# Altium footprint library LIANGJICHAO_LIBRARY.PCBLIB: 178 footprints (part 6 of 12)
Each footprint in its own frame and in the unit in brackets; x right, y up, seen from the top. Pads: shape width x height; smd on the part's side, far side on the other; paste and mask are expansions set on the pad; w line width, h text height; cw(c..) or ccw(c..) is an arc to the next point about the centre after c.
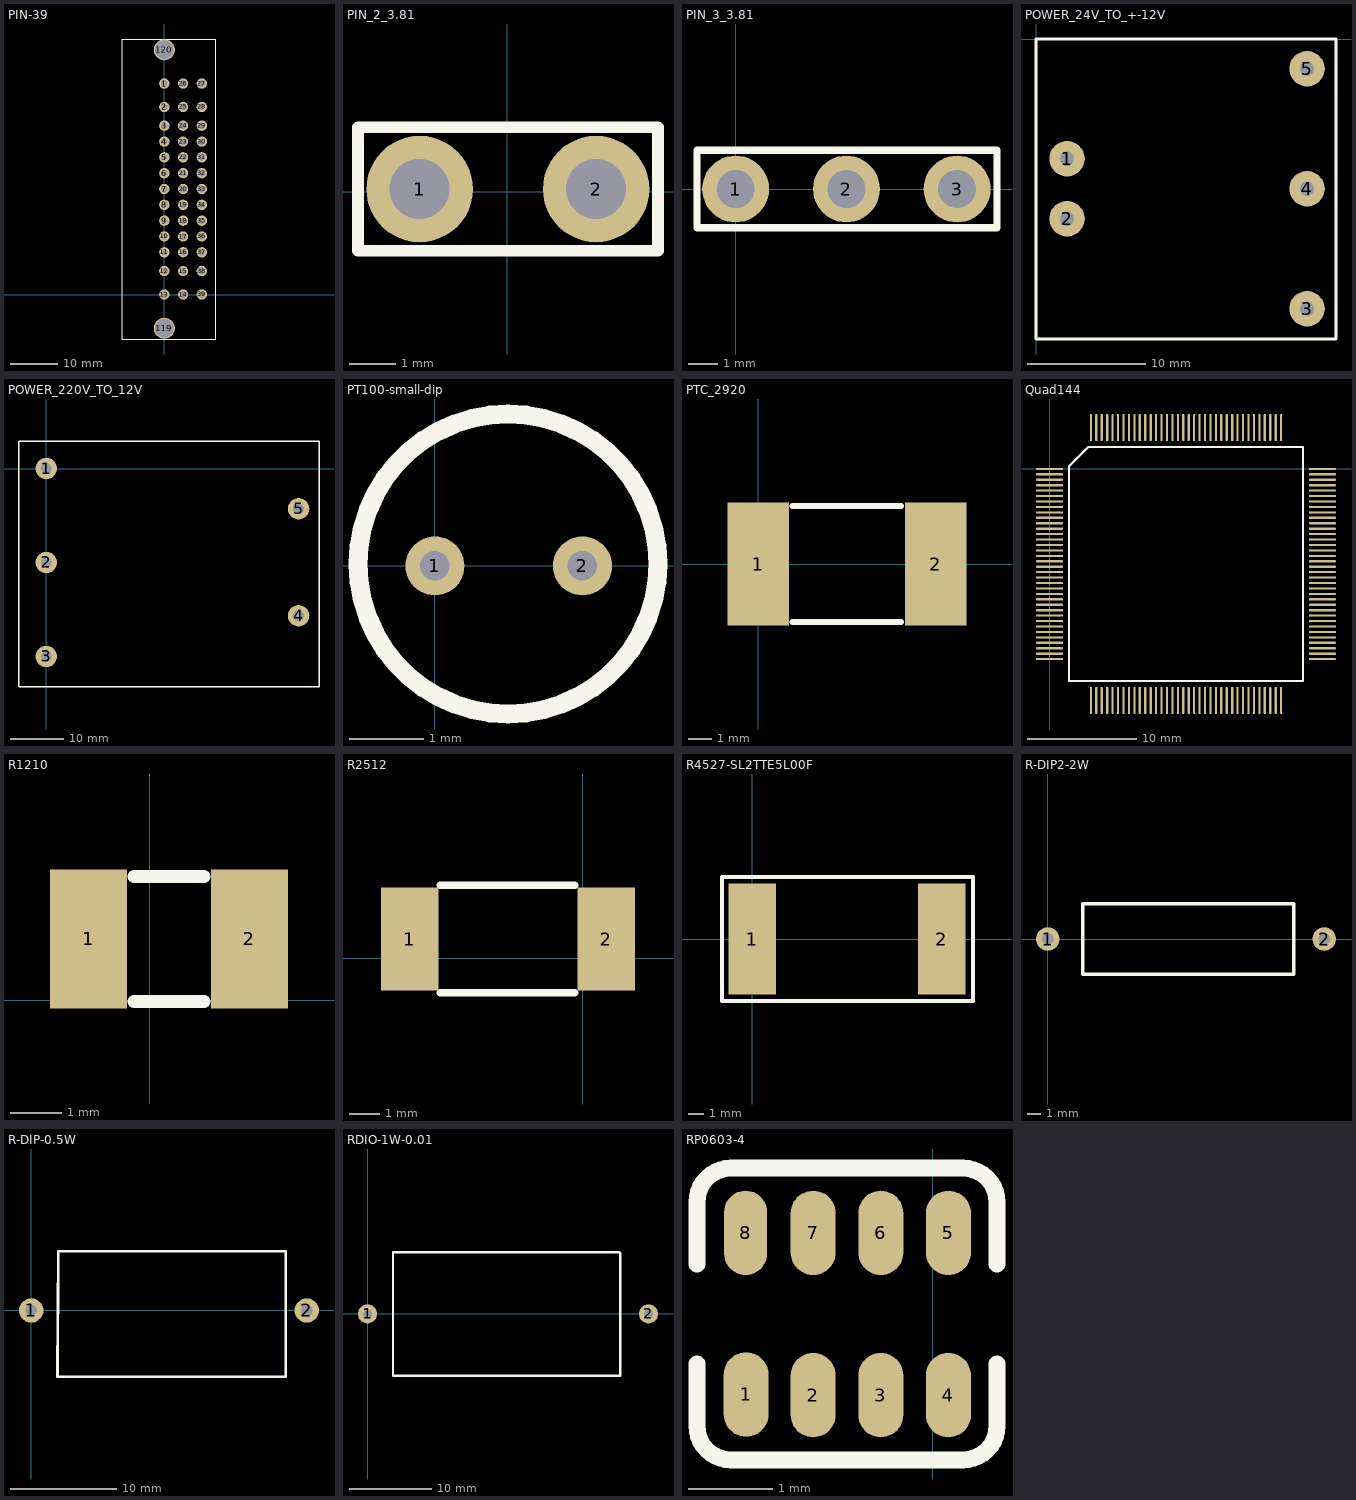
[diagram p5: the footprints below, top view; thin cyan lines are the x and y axes]

## PCBComponent_1 - duplicate1 [mm]

## PIN-39 [mm]
pads (41):
  round 2.2 hole 1.4: 1(0,45.009) 2(0,40.005) 3(-0.001,36.009) 4(-0.001,32.634) 5(-0.001,29.259) 6(-0.001,25.884) 7(-0.001,22.509) 8(-0.001,19.134) 9(-0.001,15.759) 10(-0.001,12.384) 11(-0.001,9.009) 12(-0.001,5.009) 13(0,0) 14(4,0) 15(4,5.004) 16(4,9.017) 17(4,12.37) 18(4,15.748) 19(4,19.126) 20(4,22.504) 21(4,25.897) 22(4,29.261) 23(3.987,32.634) 24(3.987,36.009) 25(4,40.005) 26(4,45.009) 27(8,45.009) 28(8,40.009) 29(8,36.009) 30(8,32.634) 31(8,29.259) 32(8,25.884) 33(8,22.509) 34(8,19.134) 35(8,15.759) 36(8,12.384) 37(8,9.009) 38(8,5.009) 39(8,0.009)
  round 4.5 hole 4: 119(0,-7.2) 120(0,52.209)
Top Overlay:
  lines w0.254: -9,-9.491 -9,54.509 11,54.509 11,-9.491 -9,-9.491

## PIN_2_3.81 [mm]
pads (2):
  round 2.3 hole 1.3 paste+0 mask+0.05: 1(-1.896,0.063) 2(1.914,0.063)
Top Overlay:
  lines w0.254: -3.226,-1.27 3.251,-1.27 3.251,1.397 -3.226,1.397 -3.226,-1.27
Mechanical 15:
  region: -2.296,-0.187 -2.296,0.313 -1.496,0.313 -1.496,-0.187
  region: 1.514,-0.187 1.514,0.313 2.314,0.313 2.314,-0.187

## PIN_3_3.81 [mm]
pads (3):
  round 2.3 hole 1.3 paste+0 mask+0.05: 1(0,0) 2(3.81,0) 3(7.62,0)
Top Overlay:
  lines w0.254: -1.33,-1.333 8.992,-1.333 8.992,1.334 -1.33,1.334 -1.33,-1.333
Mechanical 15:
  region: -0.4,-0.25 -0.4,0.25 0.4,0.25 0.4,-0.25
  region: 3.41,-0.25 3.41,0.25 4.21,0.25 4.21,-0.25

## POWER_24V_TO_+-12V [mm]
pads (5):
  round 3 hole 1.2: 1(2.632,-10.137) 2(2.632,-15.217) 3(22.952,-22.837) 4(22.952,-12.677) 5(22.952,-2.517)
Top Overlay:
  lines w0.254: 0,-25.4 25.4,-25.4 25.4,0 0,0 0,-25.4

## POWER_220V_TO_12V [mm]
pads (5):
  round 4 hole 2: 1(0,0) 2(0,-17.5) 3(0,-35) 4(47,-27.43) 5(47,-7.5)
Top Overlay:
  lines w0.254: -5.08,-40.64 50.8,-40.64 50.8,5.08 -5.08,5.08 -5.08,-40.64

## PT100-small-dip [mm]
pads (2):
  round 0.8 hole 0.4: 1(0,0) 2(2,0)
Top Overlay:
  circle w0.254: c0.991,0.025 r2.033

## PTC_2920 [mm]
pads (2):
  rect 2.6x5.2 smd: 1(0,0) 2(7.5,0)
Top Overlay:
  lines w0.254: 1.448,-2.464 6.045,-2.464 ; 1.448,2.464 6.045,2.464

## Quad144 [mm]
pads (144):
  oval 2.5x0.2 smd: 1(0,0) 2(0,-0.5) 3(0,-1) 4(0,-1.5) 5(0,-2) 6(0,-2.5) 7(0,-3) 8(0,-3.5) 9(0,-4) 10(0,-4.5) 11(0,-5) 12(0,-5.5) 13(0,-6) 14(0,-6.5) 15(0,-7) 16(0,-7.5) 17(0,-8) 18(0,-8.5) 19(0,-9) 20(0,-9.5) 21(0,-10) 22(0,-10.5) 23(0,-11) 24(0,-11.5) 25(0,-12) 26(0,-12.5) 27(0,-13) 28(0,-13.5) 29(0,-14) 30(0,-14.5) 31(0,-15) 32(0,-15.5) 33(0,-16) 34(0,-16.5) 35(0,-17) 36(0,-17.5) 73(25.1,-17.5) 74(25.1,-17) 75(25.1,-16.5) 76(25.1,-16) 77(25.1,-15.5) 78(25.1,-15) 79(25.1,-14.5) 80(25.1,-14) 81(25.1,-13.5) 82(25.1,-13) 83(25.1,-12.5) 84(25.1,-12) 85(25.1,-11.5) 86(25.1,-11) 87(25.1,-10.5) 88(25.1,-10) 89(25.1,-9.5) 90(25.1,-9) 91(25.1,-8.5) 92(25.1,-8) 93(25.1,-7.5) 94(25.1,-7) 95(25.1,-6.5) 96(25.1,-6) 97(25.1,-5.5) 98(25.1,-5) 99(25.1,-4.5) 100(25.1,-4) 101(25.1,-3.5) 102(25.1,-3) 103(25.1,-2.5) 104(25.1,-2) 105(25.1,-1.5) 106(25.1,-1) 107(25.1,-0.5) 108(25.1,0)
  oval 0.2x2.5 smd: 37(3.8,-21.3) 38(4.3,-21.3) 39(4.8,-21.3) 40(5.3,-21.3) 41(5.8,-21.3) 42(6.3,-21.3) 43(6.8,-21.3) 44(7.3,-21.3) 45(7.8,-21.3) 46(8.3,-21.3) 47(8.8,-21.3) 48(9.3,-21.3) 49(9.8,-21.3) 50(10.3,-21.3) 51(10.8,-21.3) 52(11.3,-21.3) 53(11.8,-21.3) 54(12.3,-21.3) 55(12.8,-21.3) 56(13.3,-21.3) 57(13.8,-21.3) 58(14.3,-21.3) 59(14.8,-21.3) 60(15.3,-21.3) 61(15.8,-21.3) 62(16.3,-21.3) 63(16.8,-21.3) 64(17.3,-21.3) 65(17.8,-21.3) 66(18.3,-21.3) 67(18.8,-21.3) 68(19.3,-21.3) 69(19.8,-21.3) 70(20.3,-21.3) 71(20.8,-21.3) 72(21.3,-21.3) 109(21.3,3.8) 110(20.8,3.8) 111(20.3,3.8) 112(19.8,3.8) 113(19.3,3.8) 114(18.8,3.8) 115(18.3,3.8) 116(17.8,3.8) 117(17.3,3.8) 118(16.8,3.8) 119(16.3,3.8) 120(15.8,3.8) 121(15.3,3.8) 122(14.8,3.8) 123(14.3,3.8) 124(13.8,3.8) 125(13.3,3.8) 126(12.8,3.8) 127(12.3,3.8) 128(11.8,3.8) 129(11.3,3.8) 130(10.8,3.8) 131(10.3,3.8) 132(9.8,3.8) 133(9.3,3.8) 134(8.8,3.8) 135(8.3,3.8) 136(7.8,3.8) 137(7.3,3.8) 138(6.8,3.8) 139(6.3,3.8) 140(5.8,3.8) 141(5.3,3.8) 142(4.8,3.8) 143(4.3,3.8) 144(3.8,3.8)
Top Overlay:
  lines w0.2: 1.785,-19.515 23.315,-19.515 23.315,2.015 3.57,2.015 1.785,0.23 1.785,-19.515

## R1210 [mm]
pads (2):
  rect 1.5x2.72 smd: 1(-1.194,1.194) 2(1.956,1.194)
Top Overlay:
  lines w0.254: -0.305,-0.025 1.067,-0.025 ; -0.305,2.413 1.067,2.413

## R2512 [mm]
pads (2):
  rect 1.9x3.42 smd: 1(-5.715,0.635) 2(0.785,0.635)
Top Overlay:
  lines w0.254: -4.699,-1.143 -0.254,-1.143 ; -4.699,2.413 -0.254,2.413

## R4527-SL2TTE5L00F [mm]
pads (2):
  rect 3x7 smd: 1(0,0) 2(12,0)
Top Overlay:
  lines w0.254: -1.778,3.937 13.97,3.937 13.97,-3.937 -1.905,-3.937 -1.905,3.175 -1.905,3.937 -1.397,3.937

## R-DIP2-2W [mm]
pads (2):
  round 1.7 hole 0.85: 1(0,0) 2(20,0)
Top Overlay:
  lines w0.254: 2.54,-2.54 17.78,-2.54 17.78,2.54 2.54,2.54 2.54,-2.54

## R-DIP-0.5W [mm]
pads (2):
  round 2.3 hole 1.1: 1(0,0) 2(26,0)
Top Overlay:
  lines w0.254: 2.489,-6.248 2.544,5.584 24.003,5.588 24.003,-6.248 23.393,-6.248 2.489,-6.248

## RDIO-1W-0.01 [mm]
pads (2):
  round 2.3 hole 1.1: 1(0,0) 2(34,0)
Top Overlay:
  lines w0.254: 3.103,-7.489 3.103,7.464 30.509,7.464 30.585,7.388 30.585,-7.489 25.371,-7.489 3.103,-7.489

## RP0603-4 [mil]
pads (8):
  oval 21x39.37 smd: 1(-87,40) 2(-55.75,39.69) 3(-24.25,39.69) 4(7.24,39.69) 5(7.24,115.31) 6(-24.25,115.31) 7(-55.75,115.31)
  oval 20x39.37 smd: 8(-87.24,115.31)
Top Overlay:
  lines w7.87: -109.88,54.25 -109.88,25.31 ccw(c-94.13,25.31) -94.13,9.57 14.13,9.57 ccw(c14.13,25.31) 29.88,25.31 29.88,54.25 ; -109.88,100.75 -109.88,129.68 cw(c-94.13,129.68) -94.13,145.43 14.13,145.43 cw(c14.13,129.68) 29.88,129.68 29.88,100.75